# EAGLE library part INA213 (library progduino)
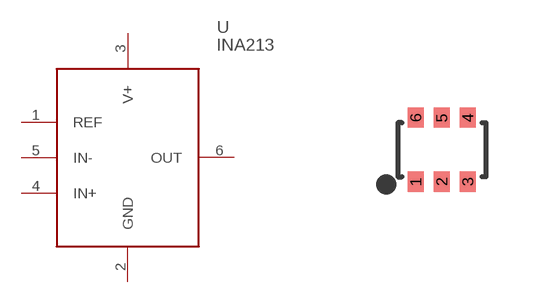
[diagram p6: symbol with the pads of SC70-6; footprint SC70-6]

Designator prefix -

## INA213  [SC70-6]
1  REF
2  GND
3  V+
4  IN+
5  IN-
6  OUT

## Footprint SC70-6 (pad centres in mm)
smd 0.4 x 0.5: 1 -0.65,-0.8; 2 0,-0.8; 3 0.65,-0.8; 4 0.65,0.8; 5 0,0.8; 6 -0.65,0.8